# Altium schematic symbol library CRCW06034K02FKEA.SchLib: 1 symbol
Pins are listed as number, name and electrical type; pins without a type are passive.

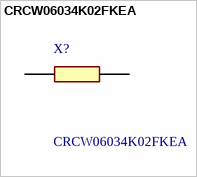
[diagram p0: symbol CRCW06034K02FKEA]

## CRCW06034K02FKEA
designator X?
Vishay CRCW Series Thick Film Surface Mount Resistor 0603 Case 4.02k +/-1% 0.1W +/-100ppm/C; Geometry.Height: 0.5mm; Mouser Part Number: 71-CRCW0603-4.02K-E3; Mouser Price/Stock: https://www.mouser.co.uk/ProductDetail/Vishay-Dale/CRCW06034K02FKEA?qs=ePVmox3SMzYmoL%252BtsFsAuw%3D%3D; Manufacturer_Name: Vishay; Manufacturer_Part_Number: CRCW06034K02FKEA; Datasheet Link: http://www.vishay.com/docs/20035/dcrcwe3.pdf
footprint RESC1608X50N
pins: 1, 2